# Altium footprint library RESC1609X60N.PcbLib: 1 footprints
Each footprint in its own frame and in the unit in brackets; x right, y up, seen from the top. Pads: shape width x height; smd on the part's side, far side on the other; paste and mask are expansions set on the pad; w line width, h text height; cw(c..) or ccw(c..) is an arc to the next point about the centre after c.
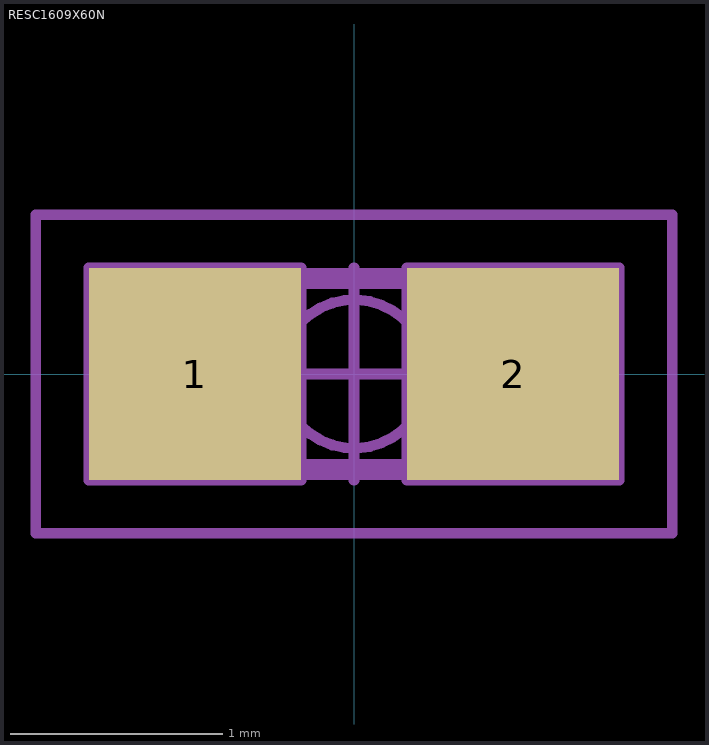
[diagram p0: the footprint, top view; thin cyan lines are the x and y axes]

## RESC1609X60N [mm] "Chip Resistor, EIA 0603, Metric 1608, Body 1.6x0.9mm, IPC Medium Density"
height 0.6
pads (2):
  rect 1x1 smd: 1(-0.75,0) 2(0.75,0)
Mechanical 8:
  lines w0.05: -0.5,0 0,0 ; 0,-0.5 0,0 ; 0,0.5 0,0 ; 0.5,0 0,0 ; -1.25,-0.5 -0.25,-0.5 -0.25,0.5 -1.25,0.5 ; -1.25,-0.5 -1.25,0.5 ; -1.25,-0.5 -0.75,0 -1.25,0.5 ; 1.25,-0.5 0.25,-0.5 0.25,0.5 1.25,0.5 ; 1.25,-0.5 1.25,0.5 ; 1.25,-0.5 0.75,0 1.25,0.5
Mechanical 14:
  lines w0.1: -0.8,-0.45 0.8,-0.45 0.8,0.45 -0.8,0.45 -0.8,-0.45
Mechanical 15:
  circle w0.05: c0,0 r0.35
  lines w0.05: -0.5,0 0.5,0 ; 0,-0.5 0,0.5 ; -1.5,-0.75 1.5,-0.75 1.5,0.75 -1.5,0.75 -1.5,-0.75
3D body "RESC1609X60N.stp": height 0.6, standoff 0, extent -0.8,-0.45 0.8,0.45